# Altium schematic symbol library STM32L412TBY6TR.SchLib: 1 symbol
Pins are listed as number, name and electrical type; pins without a type are passive.

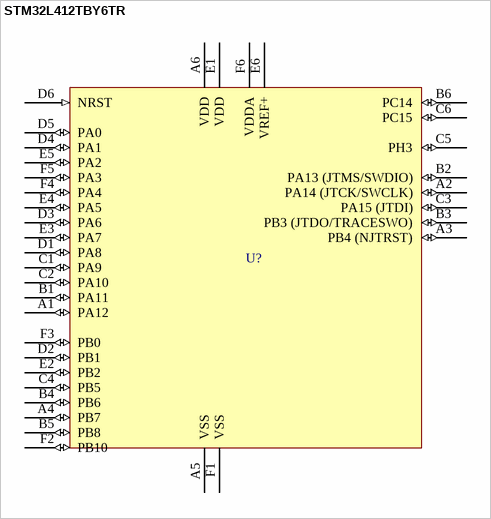
[diagram p0: symbol STM32L412TBY6TR]

## STM32L412TBY6TR
designator U?  (value not drawn)
Ultra-low-power with FPU Arm Cortex-M4 MCU 80 MHz with 128 Kbytes of Flash memory, USB
pins: A1 PA12 (io), A2 PA14 (JTCK/SWCLK) (io), A3 PB4 (NJTRST) (io), A4 PB7 (io), A5 VSS (power), A6 VDD (power), B1 PA11 (io), B2 PA13 (JTMS/SWDIO) (io), B3 PB3 (JTDO/TRACESWO) (io), B4 PB6 (io), B5 PB8 (io), B6 PC14 (io), C1 PA9 (io), C2 PA10 (io), C3 PA15 (JTDI) (io), C4 PB5 (io), C5 PH3 (io), C6 PC15 (io), D1 PA8 (io), D2 PB1 (io), D3 PA6 (io), D4 PA1 (io), D5 PA0 (io), D6 NRST (in), E1 VDD (power), E2 PB2 (io), E3 PA7 (io), E4 PA5 (io), E5 PA2 (io), E6 VREF+ (power), F1 VSS (power), F2 PB10 (io), F3 PB0 (io), F4 PA4 (io), F5 PA3 (io), F6 VDDA (power)